# Altium footprint library exBoard.PcbLib: 28 footprints (part 2 of 2)
Each footprint in its own frame and in the unit in brackets; x right, y up, seen from the top. Pads: shape width x height; smd on the part's side, far side on the other; paste and mask are expansions set on the pad; w line width, h text height; cw(c..) or ccw(c..) is an arc to the next point about the centre after c.
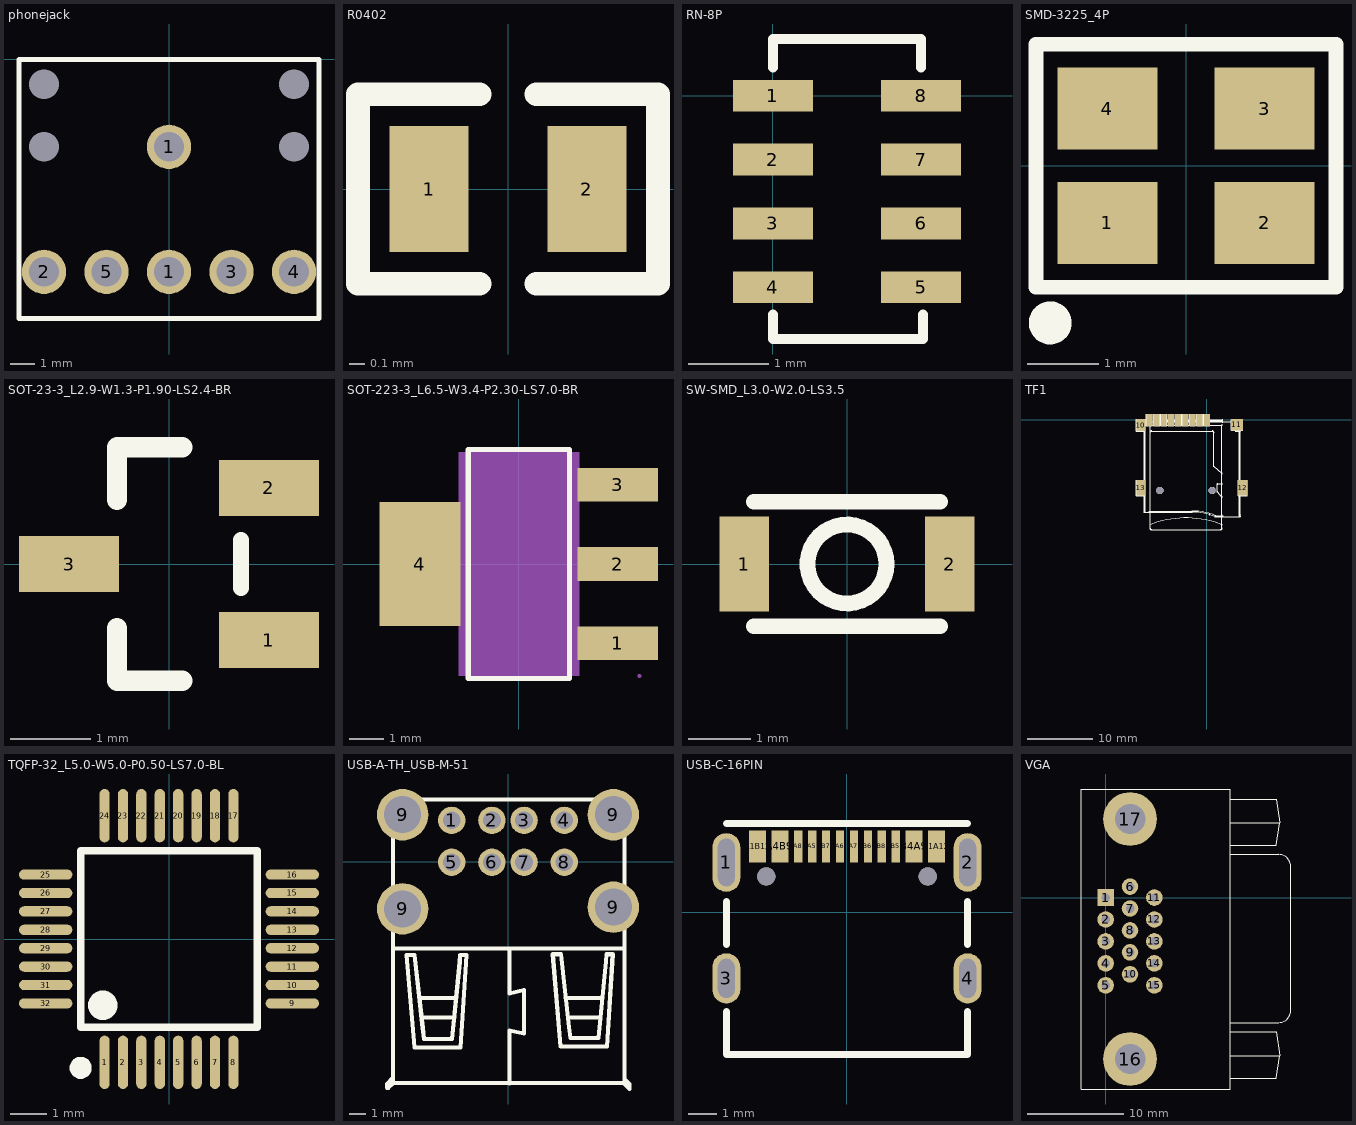
[diagram p1: the footprints below, top view; thin cyan lines are the x and y axes]

## phonejack [mm]
height 5
pads (10):
  round 1.8 hole 1.2: 1(0,-8.636) 1(0,-3.556) 2(-5.08,-8.636) 3(2.54,-8.636) 4(5.08,-8.636) 5(-2.54,-8.636)
  round 1 hole 1.2 unplated: ""(-5.08,-3.556) ""(-5.08,-1.016) ""(5.08,-3.556) ""(5.08,-1.016)
Top Overlay:
  lines w0.2: -6.096,-10.541 6.096,-10.541 6.096,0 -6.096,0 -6.096,-10.541
3D body: height 5.53, standoff -3.27, extent -6,-11.1 6,2.9

## R0402 [mm]
pads (2):
  rect 0.5x0.8 smd: 1(-0.5,0) 2(0.5,0)
Top Overlay:
  lines w0.15: -0.18,-0.6 -0.95,-0.6 -0.95,0.6 -0.18,0.6 ; 0.18,-0.6 0.95,-0.6 0.95,0.6 0.18,0.6

## RN-8P [mm]
height 4.57
pads (8):
  rect 1x0.4 smd: 1(0,0) 2(0,-0.8) 3(0,-1.6) 4(0,-2.4) 5(1.858,-2.4) 6(1.858,-1.6) 7(1.858,-0.8) 8(1.858,0)
Top Overlay:
  lines w0.127: 0,-2.743 0,-2.896 0,-3.048 1.88,-3.048 1.88,-2.896 1.88,-2.743 ; 0,0.356 0,0.533 0,0.711 1.854,0.711 1.854,0.533 1.854,0.356

## SMD-3225_4P [mm]
pads (4):
  rect 1.4x1.15 smd: 1(-1.1,-0.8) 2(1.1,-0.8) 3(1.1,0.8) 4(-1.1,0.8)
Top Overlay:
  circle w0.3: c-1.9,-2.2 r0.15
  lines w0.203: -2.1,-1.7 2.1,-1.7 2.1,1.7 -2.1,1.7 -2.1,-1.7
3D body: height 0.61, standoff 0, extent -1.6,-1.25 1.6,1.25

## SOT-23-3_L2.9-W1.3-P1.90-LS2.4-BR [mm]
pads (3):
  rect 1.25x0.7 smd: 1(1.25,-0.95) 2(1.25,0.95) 3(-1.25,0)
Top Overlay:
  lines w0.2: 0.9,-0.3 0.9,0.3
  lines w0.254: -0.65,-0.8 -0.65,-1.46 0.165,-1.46 ; 0.165,1.46 -0.65,1.46 ; -0.65,0.8 -0.65,1.46 ; -0.65,0.8 -0.65,1.46 ; -0.65,0.8 -0.65,1.46

## SOT-223-3_L6.5-W3.4-P2.30-LS7.0-BR [mm]
pads (4):
  rect 2.34x0.98 smd: 1(2.87,-2.3) 2(2.87,0) 3(2.87,2.3)
  rect 2.34x3.6 smd: 4(-2.87,0)
Top Overlay:
  lines w0.152: -1.471,-3.326 -1.471,3.326 1.471,3.326 1.471,-3.326 -1.471,-3.326
Mechanical 4:
  region: -1.75,-3.25 -1.75,3.25 1.75,3.25 1.75,-3.25
Mechanical 5:
  region: 2.6,-2.65 2.6,-1.95 3.5,-1.95 3.5,-2.65
  pour cut-out: 1.74,-2.65 1.74,-1.95 2.61,-1.95 2.61,-2.65
  region: 2.6,-0.35 2.6,0.35 3.5,0.35 3.5,-0.35
  pour cut-out: 1.74,-0.35 1.74,0.35 2.61,0.35 2.61,-0.35
  region: 2.6,1.95 2.6,2.65 3.5,2.65 3.5,1.95
  pour cut-out: 1.74,1.95 1.74,2.65 2.61,2.65 2.61,1.95
  region: -2.6,-1.5 -2.6,1.5 -3.5,1.5 -3.5,-1.5
  pour cut-out: -2.61,-1.5 -2.61,1.5 -1.74,1.5 -1.74,-1.5
Mechanical 6:
  circle w0.06: c3.5,-3.25 r0.03

## SW-SMD_L3.0-W2.0-LS3.5 [mm]
pads (2):
  rect 0.8x1.524 smd: 1(-1.651,0) 2(1.65,0)
Top Overlay:
  circle w0.254: c-0.001,0 r0.635
  lines w0.254: -1.501,-1 1.499,-1 ; -1.501,1 1.499,1

## TF1 [mm]
height 7.8
pads (15):
  rect 0.9x1.8 smd: 1(0,0) 2(-1.1,0) 3(-2.2,0) 4(-3.3,0) 5(-4.4,0) 6(-5.5,0) 7(-6.6,0) 8(-7.7,0) 9(-8.8,0)
  rect 1.4x1.8 smd: 10(-10.1,-0.8)
  rect 1.8x1.7 smd: 11(4.613,-0.75)
  rect 1.4x2.4 smd: 12(5.5,-10.4) 13(-10.1,-10.4)
  round 0 hole 1.1: 14(0.8,-10.8) 15(-7.2,-10.8)
Top Overlay:
  drawing of 849 lines, arcs and shapes, not listed

## TQFP-32_L5.0-W5.0-P0.50-LS7.0-BL [mm]
pads (32):
  oval 0.28x1.45 smd: 1(-1.75,-3.35) 2(-1.25,-3.35) 3(-0.75,-3.35) 4(-0.25,-3.35) 5(0.25,-3.35) 6(0.75,-3.35) 7(1.25,-3.35) 8(1.75,-3.35) 17(1.75,3.35) 18(1.25,3.35) 19(0.75,3.35) 20(0.25,3.35) 21(-0.25,3.35) 22(-0.75,3.35) 23(-1.25,3.35) 24(-1.75,3.35)
  oval 1.45x0.28 smd: 9(3.35,-1.75) 10(3.35,-1.25) 11(3.35,-0.75) 12(3.35,-0.25) 13(3.35,0.25) 14(3.35,0.75) 15(3.35,1.25) 16(3.35,1.75) 25(-3.35,1.75) 26(-3.35,1.25) 27(-3.35,0.75) 28(-3.35,0.25) 29(-3.35,-0.25) 30(-3.35,-0.75) 31(-3.35,-1.25) 32(-3.35,-1.75)
Top Overlay:
  lines w0.2: -2.4,-2.4 2.4,-2.4 2.4,2.4 -2.4,2.4 -2.4,-2.4
  lines w0.3: -2.4,-3.35 ccw(c-2.399,-3.5) -2.398,-3.35
  lines w0.4: -1.801,-1.6 ccw(c-1.798,-1.8) -1.796,-1.6

## USB-A-TH_USB-M-51 [mm]
pads (12):
  round 1.7 hole 1.1: 1(-3.5,2.574) 2(-1.001,2.574) 3(1.001,2.574) 4(3.5,2.574) 5(-3.5,-0.027) 6(-1.001,-0.027) 7(1.001,-0.027) 8(3.5,-0.027)
  round 3.2 hole 2.3: 9(-6.551,-2.925) 9(-6.551,2.925) 9(6.551,-2.826) 9(6.551,2.925)
Top Overlay:
  lines w0.254: -7.168,-13.447 -7.518,-13.807 -7.518,-14.047 -7.418,-14.047 -7.128,-13.757 7.172,-13.757 7.542,-14.127 7.542,-13.807 7.242,-13.507 ; -7.158,-13.797 -7.158,2.603 ; -7.158,-5.389 7.242,-5.389 ; -7.153,3.874 7.247,3.874 ; -5.509,-8.48 -3.249,-8.48 ; -5.369,-9.69 -3.339,-9.69 ; 0.082,-5.387 0.082,-8.187 1.002,-7.967 1.002,-10.687 0.083,-10.487 0.083,-13.768 ; 3.59,-8.46 5.85,-8.46 ; 3.73,-9.671 5.76,-9.671 ; 7.242,-13.807 7.242,2.593 ; -6.319,-5.801 -5.824,-11.536 -2.941,-11.547 -2.591,-5.804 -2.971,-5.804 -3.001,-6.234 -3.475,-11.012 -5.225,-11.023 -5.3,-10.345 -5.811,-5.804 -6.319,-5.801 ; 2.782,-5.747 3.277,-11.482 6.16,-11.493 6.51,-5.75 6.13,-5.75 6.1,-6.18 5.626,-10.959 3.876,-10.969 3.801,-10.291 3.291,-5.751 2.782,-5.747

## USB-C-16PIN [mm]
height 2.4
pads (18):
  oval 1x2.099 hole 0.6 slot 1.7 at 90 deg: 1(-4.32,1.787) 2(4.32,1.787)
  oval 1x1.799 hole 0.6 slot 1.4 at 90 deg: 3(-4.32,-2.362) 4(4.32,-2.362)
  rect 0.6x1.15 smd: A1B12(-3.2,2.362) A4B9(-2.4,2.362) B1A12(3.2,2.362) B4A9(2.4,2.362)
  rect 0.3x1.15 smd: A5(-1.25,2.362) A6(-0.25,2.362) A7(0.25,2.362) A8(-1.75,2.362) B5(1.75,2.362) B6(0.75,2.362) B7(-0.75,2.362) B8(1.25,2.362)
  round 0.65 hole 0.65 unplated: ""(-2.89,1.288) ""(2.89,1.288)
Top Overlay:
  lines w0.254: -4.318,-3.556 -4.318,-5.08 4.318,-5.08 4.318,-3.556 ; -4.318,-1.143 -4.318,0.381 ; -4.318,3.175 4.318,3.175 ; 4.318,-1.143 4.318,0.381
3D body: height 3.21, standoff -0.99, extent -4.47,-4.953 4.47,2.947

## VGA [mil]
height 62.99
pads (17):
  rect 68x68 hole 35: 1(0,0)
  round 68 hole 35: 2(0,-90) 3(0,-180) 4(0,-270) 5(0,-360) 6(100,45) 7(100,-45) 8(100,-135) 9(100,-225) 10(100,-315) 11(200,0) 12(200,-90) 13(200,-180) 14(200,-270) 15(200,-360)
  round 220 hole 125: 16(100,-662) 17(100,322)
Top Overlay:
  lines w5: 510,-504 510,136 ; 510.24,441 510.24,445 ; 511,-740 699,-740 713,-648 ; 511,-648 713,-648 ; 511,-550 699,-550 713,-648 ; 511,-512.49 709,-512.49 ccw(c709,-462.49) 759,-462.49 759,126.49 ccw(c709,126.49) 709,176.49 511,176.49 ; 511,214 699,214 713,306 ; 511,306 713,306 ; 511,404 699,404 713,306 ; 510.24,445 -100,445 -100,-785 510.24,-785 510.24,445